# EAGLE library part LNK3204D (library LNK30X)
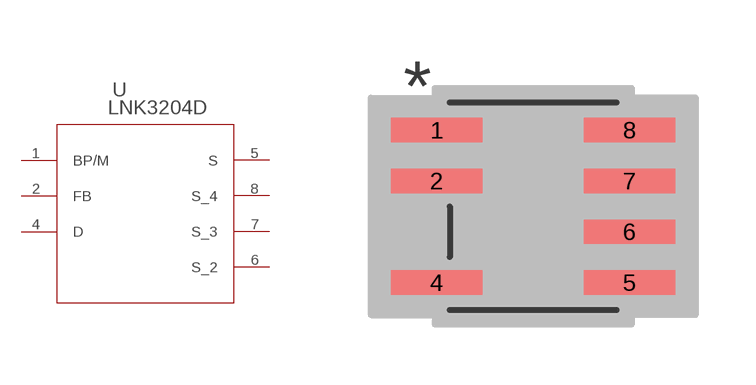
[diagram p0: symbol with the pads of SO-8C_1P27_4P9X3P9-M; footprint SO-8C_1P27_4P9X3P9-M]

Designator prefix U

## LNK3204DSMD (MANUFACTURER_PART_NUMBER: LNK3204D; VENDOR: Power Integrations)  [SO-8C_1P27_4P9X3P9-M]
1  BP/M  pas
2  FB  pas
4  D  pas
5  S  pas
6  S_2  pas
7  S_3  pas
8  S_4  pas

## Footprint SO-8C_1P27_4P9X3P9-M (pad centres in mm)
smd 2.286 x 0.61: 1 -2.413,1.905; 2 -2.413,0.635; 4 -2.413,-1.905; 5 2.413,-1.905; 6 2.413,-0.635; 7 2.413,0.635; 8 2.413,1.905